# EAGLE library part IRS2011 (library linear)
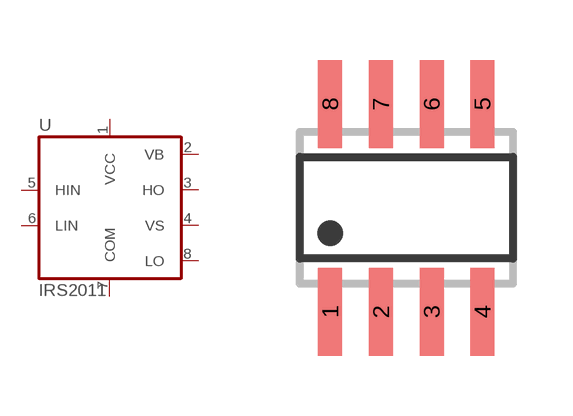
[diagram p214: symbol with the pads of SO08; footprint SO08]

Designator prefix U

## IRS2011S  [SO08]
1  VCC  pwr
2  VB  in
3  HO  out
4  VS  in
5  HIN  in
6  LIN  in
7  COM  pwr
8  LO  out

## Footprint SO08 (pad centres in mm)
SMALL OUTLINE INTEGRATED CIRCUIT body 3.9 mm/JEDEC MS-012AA
smd 0.6 x 2.2: 1 -1.905,-2.6; 2 -0.635,-2.6; 3 0.635,-2.6; 4 1.905,-2.6; 5 1.905,2.6; 6 0.635,2.6; 7 -0.635,2.6; 8 -1.905,2.6